# EAGLE library part RFM12B_MINPADS (library myLib)
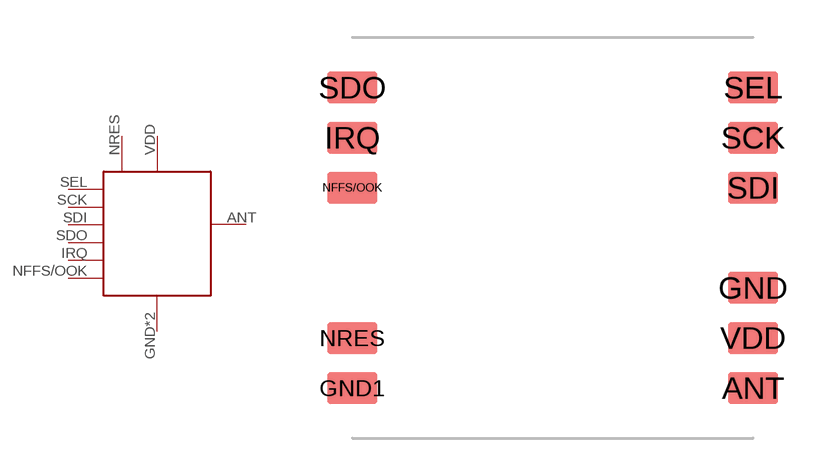
[diagram p0: symbol with the pads of RFM12B-MINPADS; footprint RFM12B-MINPADS]

Designator prefix -

## RFM12B_MINPADS  [RFM12B-MINPADS]
ANT  ANT
GND  GND
GND1  GND
IRQ  IRQ
NFFS/OOK  NFFS/OOK
NRES  NRES
SCK  SCK
SDI  SDI/MOSI
SDO  SDO/MISO
SEL  SEL
VDD  VDD

## Footprint RFM12B-MINPADS (pad centres in mm)
smd 2 x 1.27: ANT 8,-6; GND 8,-2; GND1 -8.002,-6.001; IRQ -8,4; NFFS/OOK -8,2; NRES -8.002,-4; SCK 8,4; SDI 8,2; SDO -8,6; SEL 8,6; VDD 8,-4